# Altium schematic symbol library MICROCONTROLADORES.SchLib: 10 symbols
Pins are listed as number, name and electrical type; pins without a type are passive.

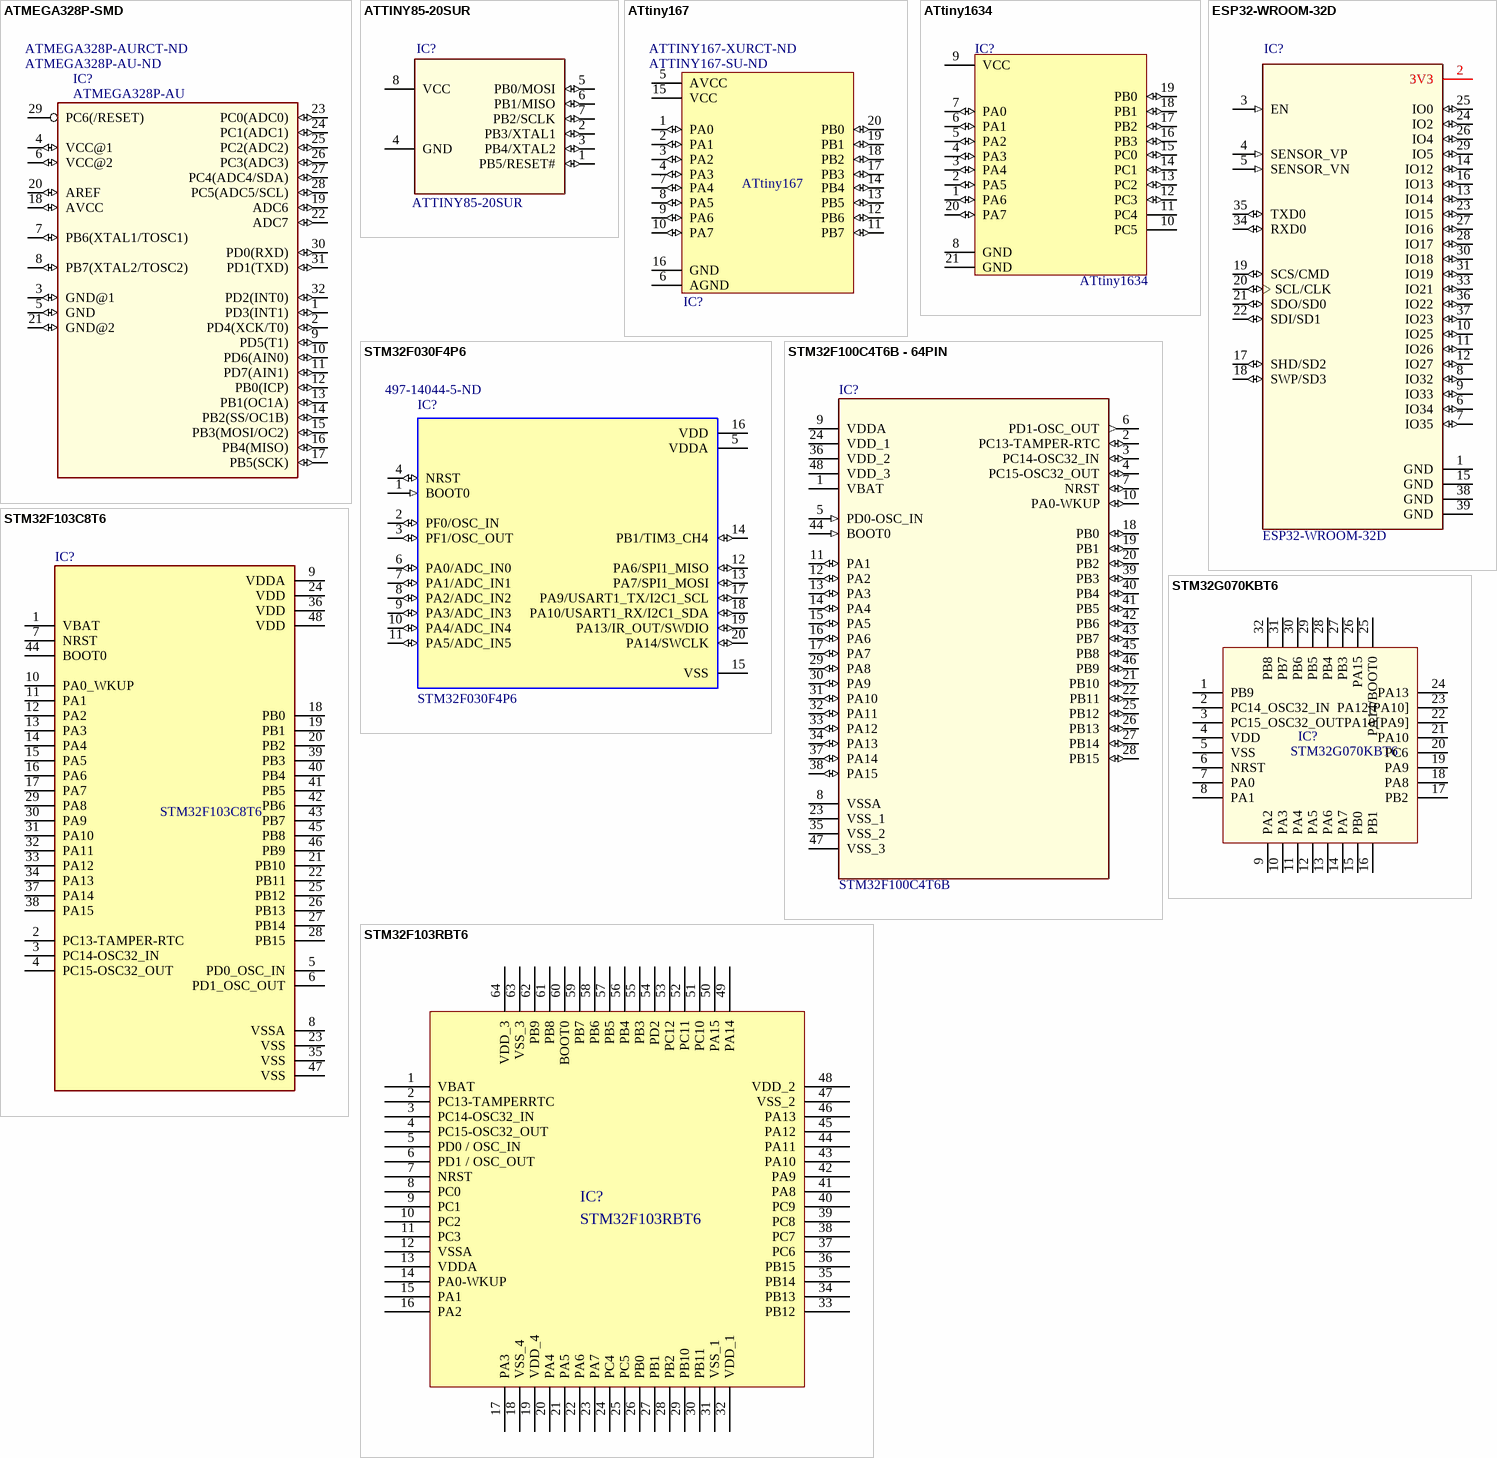
[diagram p0: symbols ATMEGA328P-SMD to STM32G070KBT6]

## ATMEGA328P-SMD
designator IC?, comment ATMEGA328P-AU  Supplier Part Number 1: ATMEGA328P-AU-ND  Supplier Part Number 2: ATMEGA328P-AURCT-ND
IC MCU 8BIT 32KB FLASH 32TQFP; Fabricante: Microchip; Footprint: TQFP-32 Microchip; MPN: ATMEGA328P-AU; Digi-Key_Part_Number: ATMEGA328P-AU-ND; Value: ATMEGA328P-AU; ComponentLink1Description: loja; ComponentLink1URL: https://www.digikey.com/product-detail/en/microchip-technology/ATMEGA328P-AU/ATMEGA328P-AU-ND/1832260; ComponentLink2Description: datasheet; ComponentLink2URL: http://ww1.microchip.com/downloads/en/DeviceDoc/ATmega48A-PA-88A-PA-168A-PA-328-P-DS-DS40002061A.pdf; Supplier 1: Digi-Key; Supplier 2: Digi-Key
footprint TQFP32-7X7MM (32-TQFP (7x7))
pins: 1 PD3(INT1) (io), 2 PD4(XCK/T0) (io), 3 GND@1 (io), 4 VCC@1 (io), 5 GND (io), 6 VCC@2 (io), 7 PB6(XTAL1/TOSC1) (io), 8 PB7(XTAL2/TOSC2) (io), 9 PD5(T1) (io), 10 PD6(AIN0) (io), 11 PD7(AIN1) (io), 12 PB0(ICP) (io), 13 PB1(OC1A) (io), 14 PB2(SS/OC1B) (io), 15 PB3(MOSI/OC2) (io), 16 PB4(MISO) (io), 17 PB5(SCK) (io), 18 AVCC (io), 19 ADC6 (io), 20 AREF (io), 21 GND@2 (io), 22 ADC7 (io), 23 PC0(ADC0) (io), 24 PC1(ADC1) (io), 25 PC2(ADC2) (io), 26 PC3(ADC3) (io), 27 PC4(ADC4/SDA) (io), 28 PC5(ADC5/SCL) (io), 29 PC6(/RESET), 30 PD0(RXD) (io), 31 PD1(TXD) (io), 32 PD2(INT0) (io)

## ATTINY85-20SUR
designator IC?
IC MCU 8BIT 8KB FLASH 8SOIC; Manufacturer: Microchip / Atmel; FABRICANTE: Microchip; Number of I/Os: 6; Frequency: 20MHz; Oscillator Type: Internal; Peripherals: Brown-out Detect/Reset,POR,PWM,WDT; Core Architecture: AVR; RAM Size: 512B; Interface: SPI; Number of Timers/Counters: 2; Max Supply Voltage: 5.5V; Min Supply Voltage: 2.7V; Data Bus Width: 8b; Watchdog Timer: Yes; FOOTPRINT: SOIC-8 Microchip; MPN: ATTINY85-20SUR; Value: ATTINY85-20SUR; ComponentLink1Description: LOJA; ComponentLink1URL: https://www.digikey.com/product-detail/en/microchip-technology/ATTINY85-20SUR/ATTINY85-20SURCT-ND/3789340; Supplier 1: Digi-Key; Supplier Part Number 1: ATTINY85-20SURCT-ND; Manufacturer Part Number: ATTINY85-20SUR; Stock 1: 8115; Pricing 1: 1=1,19000, 25=1,09000, 100=0,99000 (USD); RoHS: Yes; Mount: Surface Mount; Case/Package: SOIC; Number of Pins: 8; Contact Plating: Tin,Matte; Min Operating Temperature: -40°C; Max Operating Temperature: 85°C; Packaging: Tape and Reel; Memory Type: FLASH; Memory Size: 8KB; Package Quantity: 2000; Number of Programmable I/O: 6; Max Frequency: 20MHz; Lead Free: Lead Free; ComponentLink2URL: https://datasheet.ciiva.com/26207/2586-105-26207149.pdf?src-supplier=Avnet+Europe; ComponentLink2Description: https://datasheet.ciiva.com/26207/2586-105-26207149.pdf?src-supplier=Avnet+Europe
footprint 8-SOIC_W,0.209" (SOIC, 8-Leads, Body 5,24x5,29mm, Pitch 1,27mm, IPC Medium Density)
pins: 1 PB5/RESET# (io), 2 PB3/XTAL1 (io), 3 PB4/XTAL2 (io), 4 GND, 5 PB0/MOSI (io), 6 PB1/MISO (io), 7 PB2/SCLK (io), 8 VCC (power)

## ATtiny167
designator IC?  Supplier Part Number 1: ATTINY167-SU-ND  Supplier Part Number 2: ATTINY167-XURCT-ND
IC MCU 8 bits, I²C, LINbus, SPI, UART/USART, USI; 2.7V ~ 5.5V; Fabricante: Atmel; Footprint: TSSOP 20; MPN: ATTINY167; Value: ATTINY167; ComponentLink1Description: DATASHEET; ComponentLink1URL: http://ww1.microchip.com/downloads/en/DeviceDoc/Atmel-7728-Automotive-Microcontrollers-ATtiny87-ATtiny167_Datasheet.pdf; ComponentLink2Description: LOJA; ComponentLink2URL: https://www.digikey.com/product-detail/en/microchip-technology/ATTINY167-A15XZ/ATTINY167-A15XZTR-ND/2271063; Supplier 1: Digi-Key; Supplier 2: Digi-Key
footprint TSSOP 20
footprint 20-SOIC (SOIC, 20-Leads, Body 12,80x7,50mm, Pitch 1,27mm, IPC Medium Density)
pins: 1 PA0 (io), 2 PA1 (io), 3 PA2 (io), 4 PA3 (io), 5 AVCC, 6 AGND, 7 PA4 (io), 8 PA5 (io), 9 PA6 (io), 10 PA7 (io), 11 PB7 (io), 12 PB6 (io), 13 PB5 (io), 14 PB4 (io), 15 VCC, 16 GND, 17 PB3 (io), 18 PB2 (io), 19 PB1 (io), 20 PB0 (io)

## ATtiny1634
designator IC?
AVR AVR® ATtiny Microcontroller IC 8-Bit 12MHz 16KB; MPN: ATTINY1634-MU; Manufacturer: Microchip / Atmel; Fabricante: Microchip Technology / Atmel; Peripherals: Brown-out Detect/Reset,POR,PWM,WDT; RAM Size: 1KB; Max Supply Voltage: 5.5V; Min Supply Voltage: 1.8V; Watchdog Timer: Yes; Interface: I2C,SPI,UART,USART; Number of I/Os: 18; Number of Timers/Counters: 2; Memory Type: FLASH; Oscillator Type: Internal; Data Bus Width: 8b; Number of ADC Channels: 12; Number of I2C Channels: 1; Number of PWM Channels: 4; ComponentLink1Description: DATASHEET; ComponentLink1URL: http://ww1.microchip.com/downloads/en/DeviceDoc/Atmel-8303-8-bit-AVR-Microcontroller-tinyAVR-ATtiny1634_Datasheet.pdf; ComponentLink2Description: LOJA_DIGIKEY; ComponentLink2URL: https://www.digikey.com/product-detail/en/microchip-technology/ATTINY1634-MU/ATTINY1634-MU-ND/3128692; ComponentLink3Description: LOJA_MOUSER; ComponentLink3URL: https://br.mouser.com/ProductDetail/Microchip-Technology-Atmel/ATTINY1634-MU?qs=SxVMCiT8IVFzLUyIY%2F6Fgg%3D%3D; Footprint: QFN-20; Value: ATTINY1634; Supplier 1: Digi-Key; Supplier Part Number 1: ATTINY1634-MU-ND; Manufacturer Part Number: ATTINY1634-MU; Stock 1: 717; Pricing 1: 1=0,95000, 25=0,87000, 100=0,79000 (USD); RoHS: Yes; Mount: Surface Mount; Case/Package: QFN; Number of Pins: 20; Contact Plating: Tin,Matte; Min Operating Temperature: -40°C; Max Operating Temperature: 85°C; Frequency: 12MHz; Packaging: Tray; Package Quantity: 490; Memory Size: 16KB; Max Frequency: 12MHz; Number of Programmable I/O: 18; Core Architecture: AVR; Number of UART Channels: 2; Length: 4mm; Height: 0.75mm; Width: 4mm; REACH SVHC: No SVHC; ComponentLink4URL: https://datasheet.ciiva.com/6658/atmel-8303-8-bit-avr-microcontroller-tinyavr-attiny1634-datasheet-summary-6658869.pdf?src-supplier=Digi-Key; ComponentLink4Description: https://datasheet.ciiva.com/6658/atmel-8303-8-bit-avr-microcontroller-tinyavr-attiny1634-datasheet-summary-6658869.pdf?src-supplier=Digi-Key
footprint QFN-20 (QFN, 20-Leads, Body 4,00x4,00mm, Pitch 0,50mm, Thermal Pad 2,60x2,60mm, IPC Medium Density)
pins: 1 PA6 (io), 2 PA5 (io), 3 PA4 (io), 4 PA3 (io), 5 PA2 (io), 6 PA1 (io), 7 PA0 (io), 8 GND, 9 VCC, 10 PC5, 11 PC4, 12 PC3 (io), 13 PC2 (io), 14 PC1 (io), 15 PC0 (io), 16 PB3 (io), 17 PB2 (io), 18 PB1 (io), 19 PB0 (io), 20 PA7 (io), 21 GND

## ESP32-WROOM-32D
designator IC?
IC: SoC; GPIO, I2C, I2S, IR, SD, SDIO, SPI, UART; 2.7Ã·3.6VDC; 20dBm; Fabricante: Espressif Systems; Interface: I2C,SPI,GPIO,PWM,SDIO,UART; Frequency: 2.5GHz; Data Rate: 150Mbps; Sensitivity: -98dBm; Memory Size: 536KB; Footprint: Module Espressif Systems; MPN: ESP32-WROOM-32D; Digi-Key_Part_Number: 1904-1023-1-ND; Value: ESP32-WROOM-32D; ComponentLink1Description: DATASHEET; ComponentLink1URL: https://www.espressif.com/sites/default/files/documentation/esp32-wroom-32d_esp32-wroom-32u_datasheet_en.pdf; ComponentLink2Description: LOJA; ComponentLink2URL: https://www.digikey.com/product-detail/en/espressif-systems/ESP32-WROOM-32D/1904-1023-2-ND/9381716; Supplier 1: Digi-Key; Supplier Part Number 1: 1904-1023-1-ND; Manufacturer: Espressif Systems; Manufacturer Part Number: ESP32-WROOM-32D; Stock 1: 0; Pricing 1: 1=3,80000 (USD); RoHS: No; Mount: Surface Mount; Case/Package: SMD/SMT; Min Operating Temperature: -40°C; Max Operating Temperature: 85°C; Packaging: Cut Tape; ComponentLink3URL: https://www.espressif.com/sites/default/files/documentation/esp32-wroom-32d_esp32-wroom-32u_datasheet_en.pdf?src-supplier=Digi-Key; ComponentLink3Description: https://www.espressif.com/sites/default/files/documentation/esp32-wroom-32d_esp32-wroom-32u_datasheet_en.pdf?src-supplier=Digi-Key
footprint MODULE_ESP32-WROOM-32D (MODULO SMD 38 PIN, COM TERMAL PAD, 25mmX18mm)
pins: 1 GND (power), 2 3V3 (power), 3 EN (in), 4 SENSOR_VP (in), 5 SENSOR_VN (in), 6 IO34 (io), 7 IO35 (io), 8 IO32 (io), 9 IO33 (io), 10 IO25 (io), 11 IO26 (io), 12 IO27 (io), 13 IO14 (io), 14 IO12 (io), 15 GND (power), 16 IO13 (io), 17 SHD/SD2 (io), 18 SWP/SD3 (io), 19 SCS/CMD (io), 20 SCL/CLK (io), 21 SDO/SD0 (io), 22 SDI/SD1 (io), 23 IO15 (io), 24 IO2 (io), 25 IO0 (io), 26 IO4 (io), 27 IO16 (io), 28 IO17 (io), 29 IO5 (io), 30 IO18 (io), 31 IO19 (io), 33 IO21 (io), 34 RXD0 (io), 35 TXD0 (io), 36 IO22 (io), 37 IO23 (io), 38 GND (power), 39 GND (power)

## STM32F030F4P6
designator IC?  Supplier Part Number 1: 497-14044-5-ND
MCU 32-bit STM32F ARM Cortex M0 RISC 16KB Flash 2.5V/3.3V 20-Pin TSSOP Tray; Fabricante: STMicroelectronics; Footprint: TSSOP-20; MPN: STM32F030F4P6; Value: STM32F030F4P6; Supplier 1: Digi-Key
footprint TSSOP 20
pins: 1 BOOT0 (in), 2 PF0/OSC_IN (io), 3 PF1/OSC_OUT (io), 4 NRST (io), 5 VDDA (power), 6 PA0/ADC_IN0 (io), 7 PA1/ADC_IN1 (io), 8 PA2/ADC_IN2 (io), 9 PA3/ADC_IN3 (io), 10 PA4/ADC_IN4 (io), 11 PA5/ADC_IN5 (io), 12 PA6/SPI1_MISO (io), 13 PA7/SPI1_MOSI (io), 14 PB1/TIM3_CH4 (io), 15 VSS (power), 16 VDD (power), 17 PA9/USART1_TX/I2C1_SCL (io), 18 PA10/USART1_RX/I2C1_SDA (io), 19 PA13/IR_OUT/SWDIO (io), 20 PA14/SWCLK (io)

## STM32F100C4T6B - 64PIN
designator IC?, comment STM32F100C4T6B
Fabricante: STMicroelectronics; Interface: I2C,SPI,IrDA,UART,USART,LIN; Number of Timers/Counters: 5; RAM Size: 4KB; Max Power Dissipation: 363mW; Number of Programmable I/O: 37; Data Bus Width: 32b; Max Frequency: 24MHz; Watchdog Timer: Yes; Memory Type: FLASH; Memory Size: 16KB; Core Architecture: ARM; Max Supply Voltage: 3.6V; Min Supply Voltage: 2V; Oscillator Type: Internal; Peripherals: POR,PWM,WDT,DMA,Temp Sensor,I2C; Number of PWM Channels: 6; Number of ADC Channels: 10; Number of SPI Channels: 1; Footprint: LQFP64; MPN: *; Value: STM32F100C4T6B; Supplier 1: Digi-Key; Supplier Part Number 1: 497-10501-ND; Manufacturer: STMicroelectronics; Manufacturer Part Number: STM32F100C4T6B; Stock 1: 4382; Pricing 1: 1=2,85000, 10=2,55600, 25=2,41640, 100=2,09430, 250=1,98692, 500=1,78284, 1000=1,50360, 2500=1,42842, 5000=1,37472 (USD); RoHS: Yes; Case/Package: LQFP; Number of Pins: 48; Min Operating Temperature: -40°C; Max Operating Temperature: 85°C; Package Quantity: 250; Packaging: Tray; Number of I/Os: 37; Frequency: 24MHz; Number of I2C Channels: 1; Length: 7.2mm; Height: 1.45mm; Width: 7.2mm; Radiation Hardening: No; Lead Free: Lead Free; REACH SVHC: No SVHC; ComponentLink1URL: https://datasheet.ciiva.com/6641/cd00251732-6641717.pdf?src-supplier=Digi-Key; ComponentLink1Description: https://datasheet.ciiva.com/6641/cd00251732-6641717.pdf?src-supplier=Digi-Key; ComponentLink2URL: https://datasheet.ciiva.com/8054/1690143-8054874.pdf?src-supplier=Element14; ComponentLink2Description: https://datasheet.ciiva.com/8054/1690143-8054874.pdf?src-supplier=Element14; ComponentLink3URL: https://datasheet.ciiva.com/5752/cd00251732-5752747.pdf?src-supplier=Farnell; ComponentLink3Description: https://datasheet.ciiva.com/5752/cd00251732-5752747.pdf?src-supplier=Farnell
footprint LQFP48 (LQFP, 48-Leads, Body 7.00x7.00mm, Pitch 0.50mm, IPC Medium Density)
pins: 1 VBAT (power), 2 PC13-TAMPER-RTC (io), 3 PC14-OSC32_IN (io), 4 PC15-OSC32_OUT (io), 5 PD0-OSC_IN (in), 6 PD1-OSC_OUT (out), 7 NRST (io), 8 VSSA (power), 9 VDDA (power), 10 PA0-WKUP (io), 11 PA1 (io), 12 PA2 (io), 13 PA3 (io), 14 PA4 (io), 15 PA5 (io), 16 PA6 (io), 17 PA7 (io), 18 PB0 (io), 19 PB1 (io), 20 PB2 (io), 21 PB10 (io), 22 PB11 (io), 23 VSS_1 (power), 24 VDD_1 (power), 25 PB12 (io), 26 PB13 (io), 27 PB14 (io), 28 PB15 (io), 29 PA8 (io), 30 PA9 (io), 31 PA10 (io), 32 PA11 (io), 33 PA12 (io), 34 PA13 (io), 35 VSS_2 (power), 36 VDD_2 (power), 37 PA14 (io), 38 PA15 (io), 39 PB3 (io), 40 PB4 (io), 41 PB5 (io), 42 PB6 (io), 43 PB7 (io), 44 BOOT0 (in), 45 PB8 (io), 46 PB9 (io), 47 VSS_3 (power), 48 VDD_3 (power)

## STM32F103C8T6
designator IC?
ARM® Cortex®-M3 STM32F1 Microcontroller IC 32-Bit 72MHz 64KB (64K x 8) FLASH; FABRICANTE: STMicroelectronics; RAM Size: 20KB; Max Power Dissipation: 363mW; Interface: I2C,SPI,USB,CAN,IrDA,UART,USART,LIN; Number of I/Os: 37; Number of Timers/Counters: 4; Max Supply Voltage: 3.6V; Number of ADC Channels: 10; Min Supply Voltage: 2V; Oscillator Type: Internal; Number of Programmable I/O: 48; Data Bus Width: 32b; Number of Bits: 32; Watchdog Timer: Yes; Peripherals: POR,PWM,WDT,DMA,Temp Sensor,I2C; Core Architecture: ARM; Number of PWM Channels: 1; Number of SPI Channels: 2; Footprint: LQFP-48 STMicroelectronics; Value: STM32F103C8T6; MPN: STM32F103C8T6; ComponentLink1Description: LOJA; ComponentLink1URL: https://www.digikey.com/product-detail/en/stmicroelectronics/STM32F103C8T6/497-6063-ND/1646338; ComponentLink2Description: Datasheet; ComponentLink2URL: https://www.st.com/resource/en/datasheet/stm32f103cb.pdf; Supplier 1: Digi-Key; Supplier Part Number 1: 497-6063-ND; Manufacturer: STMicroelectronics; Manufacturer Part Number: STM32F103C8T6; Stock 1: 1998; Pricing 1: 1=4,94000, 10=4,43700, 25=4,19480, 100=3,63540, 250=3,44896, 500=3,09474, 1000=2,61002, 2500=2,47952, 5000=2,38630 (USD); RoHS: Yes; Case/Package: LQFP; Number of Pins: 48; Min Operating Temperature: -40°C; Max Operating Temperature: 85°C; Frequency: 72MHz; Packaging: Tray; Package Quantity: 250; Density: 64KB; Memory Type: FLASH; Max Frequency: 72MHz; Memory Size: 64KB; Termination: SMD/SMT; Number of I2C Channels: 2; Address Bus Width: 32b; Length: 7mm; Height: 1.45mm; Width: 7.2mm; Radiation Hardening: No; Lead Free: Lead Free; REACH SVHC: No SVHC; ComponentLink3URL: https://datasheet.ciiva.com/15122/getdatasheetpartid-69880-15122076.pdf?src-supplier=Verical; ComponentLink3Description: https://datasheet.ciiva.com/15122/getdatasheetpartid-69880-15122076.pdf?src-supplier=Verical; ComponentLink4URL: https://datasheet.ciiva.com/26816/stm32f103c8t6-26816902.pdf?src-supplier=IIIC; ComponentLink4Description: https://datasheet.ciiva.com/26816/stm32f103c8t6-26816902.pdf?src-supplier=IIIC; ComponentLink5URL: https://datasheet.ciiva.com/16210/cd00161566-16210248.pdf?src-supplier=Future+Electronics; ComponentLink5Description: https://datasheet.ciiva.com/16210/cd00161566-16210248.pdf?src-supplier=Future+Electronics; ComponentLink6URL: https://datasheet.ciiva.com/14100/pustm-arm-microcont-stm32f103-en-14100508.pdf?src-supplier=Distrelec; ComponentLink6Description: https://datasheet.ciiva.com/14100/pustm-arm-microcont-stm32f103-en-14100508.pdf?src-supplier=Distrelec; ComponentLink7URL: https://datasheet.ciiva.com/8054/1730126-8054942.pdf?src-supplier=Element14; ComponentLink7Description: https://datasheet.ciiva.com/8054/1730126-8054942.pdf?src-supplier=Element14; ComponentLink8URL: https://datasheet.ciiva.com/48687/001075658-da-01-en-mcu-64kb-mem-stm32f103c8t6-lqfp-48-stm-48687589.pdf?src-supplier=Conrad; ComponentLink8Description: https://datasheet.ciiva.com/48687/001075658-da-01-en-mcu-64kb-mem-stm32f103c8t6-lqfp-48-stm-48687589.pdf?src-supplier=Conrad
footprint QFP48N
pins: 1 VBAT, 2 PC13-TAMPER-RTC, 3 PC14-OSC32_IN, 4 PC15-OSC32_OUT, 5 PD0_OSC_IN, 6 PD1_OSC_OUT, 7 NRST, 8 VSSA, 9 VDDA, 10 PA0_WKUP, 11 PA1, 12 PA2, 13 PA3, 14 PA4, 15 PA5, 16 PA6, 17 PA7, 18 PB0, 19 PB1, 20 PB2, 21 PB10, 22 PB11, 23 VSS, 24 VDD, 25 PB12, 26 PB13, 27 PB14, 28 PB15, 29 PA8, 30 PA9, 31 PA10, 32 PA11, 33 PA12, 34 PA13, 35 VSS, 36 VDD, 37 PA14, 38 PA15, 39 PB3, 40 PB4, 41 PB5, 42 PB6, 43 PB7, 44 BOOT0, 45 PB8, 46 PB9, 47 VSS, 48 VDD

## STM32F103RBT6
designator IC?
Medium-density performance line ARM-based 32-bit MCU with 64 or / 128 KB Flash, USB, CAN, 7 timers, 2 ADCs, 9 communication interfaces; Fabricante: STMicroelectronics; Interface: I2C,SPI,USB,CAN,IrDA,UART,USART,LIN; Core Architecture: ARM; Data Bus Width: 32b; Number of Bits: 32; Max Supply Voltage: 3.6V; RAM Size: 20KB; Max Power Dissipation: 444mW; Number of I/Os: 51; Number of Timers/Counters: 4; Frequency: 72MHz; Number of ADC Channels: 16; Min Supply Voltage: 2V; Oscillator Type: Internal; Number of Programmable I/O: 64; Watchdog Timer: Yes; Memory Size: 128KB; Peripherals: POR,PWM,WDT,DMA,Temp Sensor,I2C; Number of PWM Channels: 1; Number of SPI Channels: 2; Footprint: LQFP - 64; MPN: STM32F103RBT6; Value: STM32F103RBT6; ComponentLink1Description: LOJA; ComponentLink1URL: https://www.digikey.com/product-detail/en/stmicroelectronics/STM32F103RBT6/497-6066-ND/1646341; ComponentLink2Description: DATASHEET; ComponentLink2URL: https://media.digikey.com/pdf/Data%20Sheets/ST%20Microelectronics%20PDFS/STM32F103x8,B.pdf; Supplier 1: Digi-Key; Supplier Part Number 1: 497-6066-ND; Manufacturer: STMicroelectronics; Manufacturer Part Number: STM32F103RBT6; Stock 1: 1245; Pricing 1: 1=6,04000, 10=5,42900, 25=5,13240, 100=4,44810, 250=4,22004, 500=3,78662, 1000=3,19354, 2500=3,03386, 5000=2,91981 (USD); RoHS: Yes; Case/Package: LQFP; Number of Pins: 64; Contact Plating: Gold; Min Operating Temperature: -40°C; Max Operating Temperature: 85°C; Package Quantity: 160; Packaging: Tray; Memory Type: FLASH; Max Frequency: 72MHz; Density: 128KB; Number of I2C Channels: 2; Address Bus Width: 32b; Length: 10mm; Height: 1.45mm; Width: 10mm; Radiation Hardening: No; REACH SVHC: No SVHC; Lead Free: Lead Free; ComponentLink3URL: https://datasheet.ciiva.com/15122/getdatasheetpartid-65286-15122055.pdf?src-supplier=Verical; ComponentLink3Description: https://datasheet.ciiva.com/15122/getdatasheetpartid-65286-15122055.pdf?src-supplier=Verical; ComponentLink4URL: https://datasheet.ciiva.com/26816/stm32f103rbt6-26816906.pdf?src-supplier=IIIC; ComponentLink4Description: https://datasheet.ciiva.com/26816/stm32f103rbt6-26816906.pdf?src-supplier=IIIC; ComponentLink5URL: https://datasheet.ciiva.com/1502/cd00161566-1502480.pdf?src-supplier=Digi-Key; ComponentLink5Description: https://datasheet.ciiva.com/1502/cd00161566-1502480.pdf?src-supplier=Digi-Key; ComponentLink6URL: https://datasheet.ciiva.com/4839/cd00161566-4839913.pdf?src-supplier=Mouser; ComponentLink6Description: https://datasheet.ciiva.com/4839/cd00161566-4839913.pdf?src-supplier=Mouser; ComponentLink7URL: https://datasheet.ciiva.com/16490/cd00161566-16490873.pdf?src-supplier=Future+Electronics; ComponentLink7Description: https://datasheet.ciiva.com/16490/cd00161566-16490873.pdf?src-supplier=Future+Electronics; ComponentLink8URL: https://datasheet.ciiva.com/14100/pustm-arm-microcont-stm32f103-en-14100511.pdf?src-supplier=Distrelec; ComponentLink8Description: https://datasheet.ciiva.com/14100/pustm-arm-microcont-stm32f103-en-14100511.pdf?src-supplier=Distrelec; ComponentLink9URL: https://datasheet.ciiva.com/48687/001075660-da-01-en-mcu-128kb-mem-stm32f103rbt6-lqfp-64-stm-48687591.pdf?src-supplier=Conrad; ComponentLink9Description: https://datasheet.ciiva.com/48687/001075660-da-01-en-mcu-128kb-mem-stm32f103rbt6-lqfp-64-stm-48687591.pdf?src-supplier=Conrad
footprint LQFP64N
pins: 1 VBAT, 2 PC13-TAMPERRTC, 3 PC14-OSC32_IN, 4 PC15-OSC32_OUT, 5 PD0 / OSC_IN, 6 PD1 / OSC_OUT, 7 NRST, 8 PC0, 9 PC1, 10 PC2, 11 PC3, 12 VSSA, 13 VDDA, 14 PA0-WKUP, 15 PA1, 16 PA2, 17 PA3, 18 VSS_4, 19 VDD_4, 20 PA4, 21 PA5, 22 PA6, 23 PA7, 24 PC4, 25 PC5, 26 PB0, 27 PB1, 28 PB2, 29 PB10, 30 PB11, 31 VSS_1, 32 VDD_1, 33 PB12, 34 PB13, 35 PB14, 36 PB15, 37 PC6, 38 PC7, 39 PC8, 40 PC9, 41 PA8, 42 PA9, 43 PA10, 44 PA11, 45 PA12, 46 PA13, 47 VSS_2, 48 VDD_2, 49 PA14, 50 PA15, 51 PC10, 52 PC11, 53 PC12, 54 PD2, 55 PB3, 56 PB4, 57 PB5, 58 PB6, 59 PB7, 60 BOOT0, 61 PB8, 62 PB9, 63 VSS_3, 64 VDD_3

## STM32G070KBT6
designator IC?
ARM® Cortex®-M0+ series Microcontroller IC 32-Bit 64MHz 128KB (128K x 8) FLASH 32-LQFP (7x7); Manufacturer 1: STMicroelectronics; Interface: I2C,SPI,I2S,USART,LIN; Core Architecture: ARM; Data Bus Width: 32b; RAM Size: 36KB; Number of I/Os: 29; Number of ADC Channels: 13; Max Supply Voltage: 3.6V; Min Supply Voltage: 2V; Stock 1: 2737; Pricing 1: 1=2,02000, 10=1,81000, 25=1,70760, 100=1,45500, 250=1,36620, 500=1,19542, 1000=0,99050, 2500=0,92218, 5000=0,88803 (USD); RoHS: No; Case/Package: LQFP; Min Operating Temperature: -40°C; Max Operating Temperature: 85°C; Memory Type: FLASH; Max Frequency: 64MHz; Memory Size: 128KB; Package Quantity: 250; ComponentLink1URL: https://datasheet.ciiva.com/71223/stm32g070cb-1517433-71223599.pdf?src-supplier=Mouser; ComponentLink1Description: https://datasheet.ciiva.com/71223/stm32g070cb-1517433-71223599.pdf?src-supplier=Mouser; Supplier 1: Digi-Key; Supplier Part Number 1: 497-STM32G070KBT6-ND; Value: STM32G070KBT6; Manufacturer Part Number 1: STM32G070KBT6
footprint lqfp32
pins: 1 PB9, 2 PC14_OSC32_IN, 3 PC15_OSC32_OUT, 4 VDD, 5 VSS, 6 NRST, 7 PA0, 8 PA1, 9 PA2, 10 PA3, 11 PA4, 12 PA5, 13 PA6, 14 PA7, 15 PB0, 16 PB1, 17 PB2, 18 PA8, 19 PA9, 20 PC6, 21 PA10, 22 PA10[PA9], 23 PA12[PA10], 24 PA13, 25 PA14/BOOT0, 26 PA15, 27 PB3, 28 PB4, 29 PB5, 30 PB6, 31 PB7, 32 PB8